# EAGLE library part EN6347QI (library Alpha-Power)
3A PowerSoC Voltage Mode Synchronous PWM Buck with Integrated Inductor
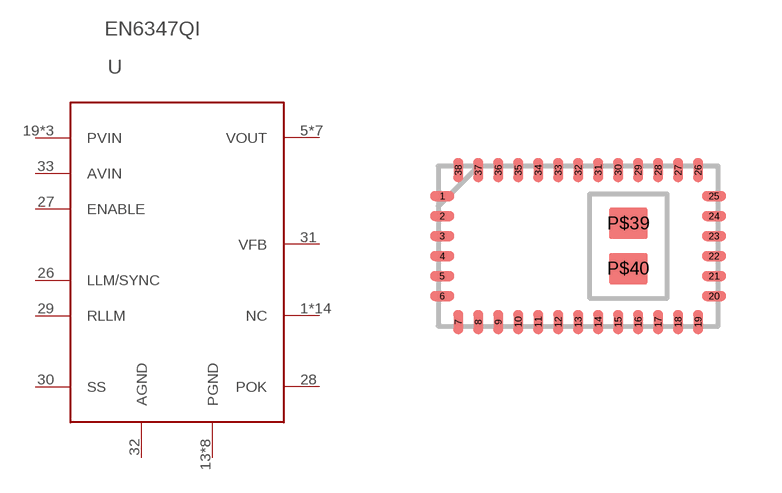
[diagram p5: symbol with the pads of QFN38_4X7X1.85; footprint QFN38_4X7X1.85]

Designator prefix U

## EN6347QI (MPN: EN6347QI; OC_FARNELL: 2081146; PACKAGE: QFN; SUPPLIER: ENPIRION)  [QFN38_4X7X1.85]
1  NC  nc
2  NC  nc
3  NC  nc
4  NC  nc
5  VOUT  pwr
6  VOUT  pwr
7  VOUT  pwr
8  VOUT  pwr
9  VOUT  pwr
10  VOUT  pwr
11  VOUT  pwr
12  NC  nc
13  PGND  pwr
14  PGND  pwr
15  PGND  pwr
16  PGND  pwr
17  PGND  pwr
18  PGND  pwr
19  PVIN  pwr
20  PVIN  pwr
21  PVIN  pwr
22  NC  nc
23  NC  nc
24  NC  nc
25  NC  nc
26  LLM/SYNC  in
27  ENABLE  in
28  POK  out
29  RLLM  in
30  SS
31  VFB  in
32  AGND  pwr
33  AVIN  pwr
34  NC  nc
35  NC  nc
36  NC  nc
37  NC  nc
38  NC  nc
P$39  PGND  pwr
P$40  PGND  pwr

## Footprint QFN38_4X7X1.85 (pad centres in mm)
smd 0.6 x 0.25: 1 -3.4,1.25; 2 -3.4,0.75; 3 -3.4,0.25; 4 -3.4,-0.25; 5 -3.4,-0.75; 6 -3.4,-1.25; 20 3.4,-1.25; 21 3.4,-0.75; 22 3.4,-0.25; 23 3.4,0.25; 24 3.4,0.75; 25 3.4,1.25
smd 0.25 x 0.6: 7 -3,-1.9; 8 -2.5,-1.9; 9 -2,-1.9; 10 -1.5,-1.9; 11 -1,-1.9; 12 -0.5,-1.9; 13 0,-1.9; 14 0.5,-1.9; 15 1,-1.9; 16 1.5,-1.9; 17 2,-1.9; 18 2.5,-1.9; 19 3,-1.9; 26 3,1.9; 27 2.5,1.9; 28 2,1.9; 29 1.5,1.9; 30 1,1.9; 31 0.5,1.9; 32 0,1.9; 33 -0.5,1.9; 34 -1,1.9; 35 -1.5,1.9; 36 -2,1.9; 37 -2.5,1.9; 38 -3,1.9
smd 0.97 x 0.78: P$39 1.255,0.565; P$40 1.255,-0.565